# Altium footprint library Mounting Hole - Hole-3.2mm, Pad-5mm.PcbLib: 1 footprints
Each footprint in its own frame and in the unit in brackets; x right, y up, seen from the top. Pads: shape width x height; smd on the part's side, far side on the other; paste and mask are expansions set on the pad; w line width, h text height; cw(c..) or ccw(c..) is an arc to the next point about the centre after c.
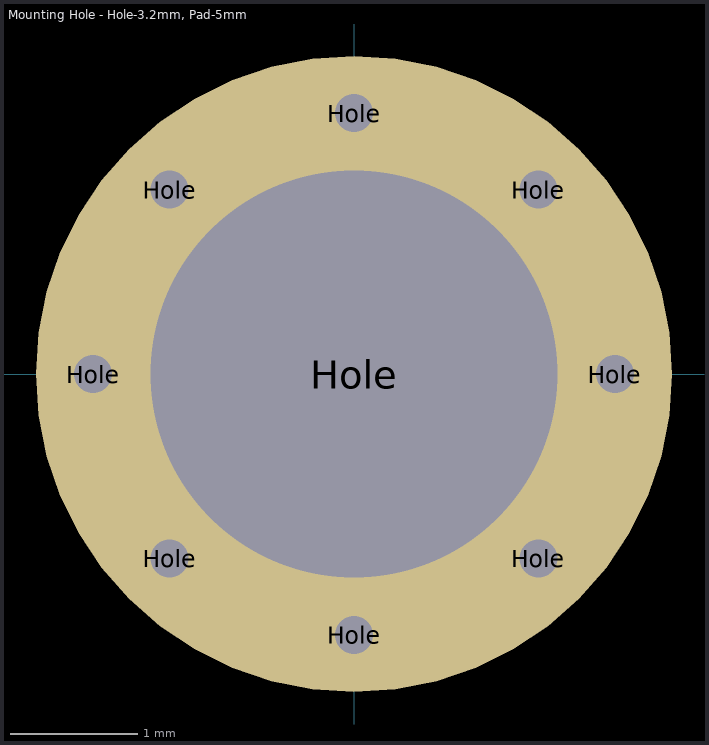
[diagram p0: the footprint, top view; thin cyan lines are the x and y axes]

## Mounting Hole - Hole-3.2mm, Pad-5mm [mm] "Mounting Hole - Hole-3.2mm, Pad-5mm"
pads (9):
  round 0.6 hole 0.3 mask+0.05: Hole(-2.05,0) Hole(-1.45,-1.45) Hole(-1.45,1.45) Hole(0,-2.05) Hole(0,2.05) Hole(1.45,-1.45) Hole(1.45,1.45) Hole(2.05,0)
  round 5 hole 3.2 mask+0.05: Hole(0,0)